# Altium footprint library DIOAD1510W84L490D255.PcbLib: 1 footprints
Each footprint in its own frame and in the unit in brackets; x right, y up, seen from the top. Pads: shape width x height; smd on the part's side, far side on the other; paste and mask are expansions set on the pad; w line width, h text height; cw(c..) or ccw(c..) is an arc to the next point about the centre after c.
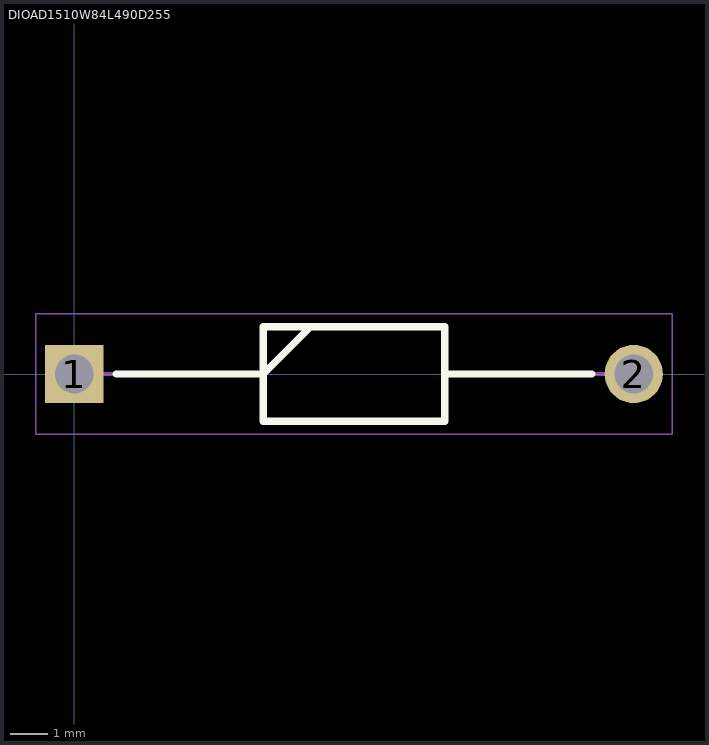
[diagram p0: the footprint, top view; thin cyan lines are the x and y axes]

## DIOAD1510W84L490D255 [mm]
pads (2):
  rect 1.575x1.575 / inner round 1.575 / far side rect 1.575x1.575 hole 1.05: 1(0,0)
  round 1.575 hole 1.05: 2(15.1,0)
Top Overlay:
  lines w0.2: 1.138,0 5.1,0 6.375,1.275 ; 10,0 13.962,0 ; 5.1,-1.275 10,-1.275 10,1.275 5.1,1.275 5.1,-1.275
Mechanical 15:
  lines w0.1: 0,0 5.1,0 6.375,1.275 ; 10,0 15.1,0 ; 5.1,-1.275 10,-1.275 10,1.275 5.1,1.275 5.1,-1.275
Mechanical 20:
  lines w0.05: -1.038,-1.625 16.137,-1.625 16.137,1.625 -1.038,1.625 -1.038,-1.625